# Altium footprint library SummerWorkshop.PcbLib: 1 footprints
Each footprint in its own frame and in the unit in brackets; x right, y up, seen from the top. Pads: shape width x height; smd on the part's side, far side on the other; paste and mask are expansions set on the pad; w line width, h text height; cw(c..) or ccw(c..) is an arc to the next point about the centre after c.
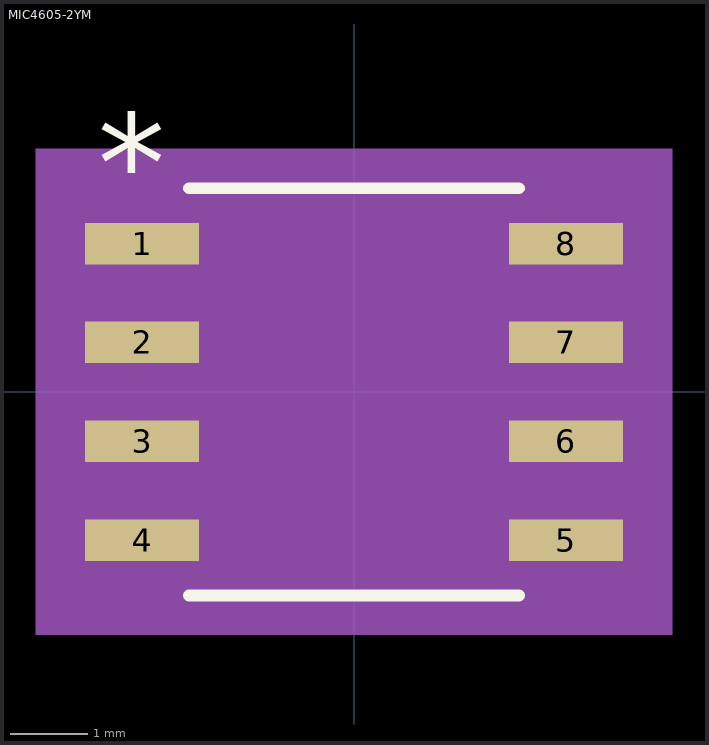
[diagram p0: the footprint, top view; thin cyan lines are the x and y axes]

## MIC4605-2YM [mil]
pads (8):
  rect 57.5x21 smd paste+0 mask+0: 1(-107.25,75) 2(-107.25,25) 3(-107.25,-25) 4(-107.25,-75) 5(107.25,-75) 6(107.25,-25) 7(107.25,25) 8(107.25,75)
Top Overlay:
  lines w6: -83.5,-103 83.5,-103 ; -83.5,103 83.5,103
  text "*" at -129.75,91 h50
Mechanical 5:
  region: 161,-123 -161,-123 -161,123 161,123
Mechanical 13:
  lines w0: -12,98 ccw(c0,98) 12,98
  lines w1: -122,-84.5 -122,-65.5 -78.5,-65.5 -78.5,-84.5 -122,-84.5 ; -122,-34.5 -122,-15.5 -78.5,-15.5 -78.5,-34.5 -122,-34.5 ; -122,15.5 -122,34.5 -78.5,34.5 -78.5,15.5 -122,15.5 ; -122,65.5 -122,84.5 -78.5,84.5 -78.5,65.5 -122,65.5 ; -78.5,-98 78.5,-98 78.5,98 -78.5,98 -78.5,-98 ; 78.5,-84.5 78.5,-65.5 122,-65.5 122,-84.5 78.5,-84.5 ; 78.5,-34.5 78.5,-15.5 122,-15.5 122,-34.5 78.5,-34.5 ; 78.5,15.5 78.5,34.5 122,34.5 122,15.5 78.5,15.5 ; 78.5,65.5 78.5,84.5 122,84.5 122,65.5 78.5,65.5
  text "*" at -76,45 h50
Mechanical 15:
  region: -88.5,-95.5 -146,-95.5 -146,95.5 -88.5,95.5 -88.5,108 88.5,108 88.5,95.5 146,95.5 146,-95.5 88.5,-95.5 88.5,-108 -88.5,-108
  lines w6: -146,-95.5 -146,95.5 -88.5,95.5 -88.5,108 88.5,108 88.5,95.5 146,95.5 146,-95.5 88.5,-95.5 88.5,-108 -88.5,-108 -88.5,-95.5 -146,-95.5
3D body "SOIC-8_M_MCH.step": height 66.1, standoff 0, extent -122.01,-97.99 122.01,97.99